# Altium footprint library SIM5320 pcb.PcbLib: 1 footprints
Each footprint in its own frame and in the unit in brackets; x right, y up, seen from the top. Pads: shape width x height; smd on the part's side, far side on the other; paste and mask are expansions set on the pad; w line width, h text height; cw(c..) or ccw(c..) is an arc to the next point about the centre after c.
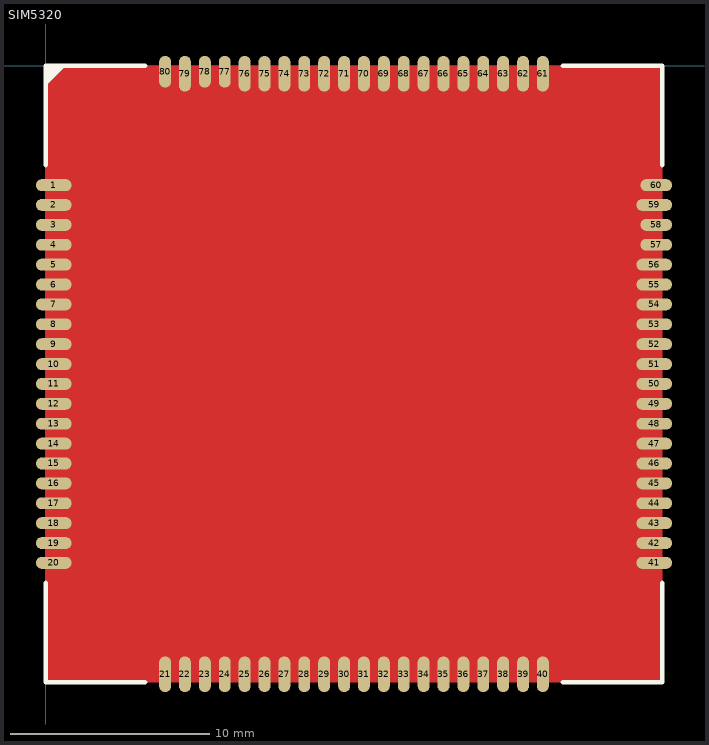
[diagram p0: the footprint, top view; thin cyan lines are the x and y axes]

## SIM5320 [mm]
height 2.9
pads (80):
  oval 1.8x0.6 smd: 1(0.4,-6) 2(0.4,-7) 3(0.4,-8) 4(0.4,-9) 5(0.4,-10) 6(0.4,-11) 7(0.4,-12) 8(0.4,-13) 9(0.4,-14) 10(0.4,-15) 11(0.4,-16) 12(0.4,-17) 13(0.4,-18) 14(0.4,-19) 15(0.4,-20) 16(0.4,-21) 17(0.4,-22) 18(0.4,-23) 19(0.4,-24) 20(0.4,-25) 41(30.6,-25) 42(30.6,-24) 43(30.6,-23) 44(30.6,-22) 45(30.6,-21) 46(30.6,-20) 47(30.6,-19) 48(30.6,-18) 49(30.6,-17) 50(30.6,-16) 51(30.6,-15) 52(30.6,-14) 53(30.6,-13) 54(30.6,-12) 55(30.6,-11) 56(30.6,-10) 59(30.6,-7)
  oval 0.6x1.8 smd: 21(6,-30.6) 22(7,-30.6) 23(8,-30.6) 24(9,-30.6) 25(10,-30.6) 26(11,-30.6) 27(12,-30.6) 28(13,-30.6) 29(14,-30.6) 30(15,-30.6) 31(16,-30.6) 32(17,-30.6) 33(18,-30.6) 34(19,-30.6) 35(20,-30.6) 36(21,-30.6) 37(22,-30.6) 38(23,-30.6) 39(24,-30.6) 40(25,-30.6) 61(25,-0.4) 62(24,-0.4) 63(23,-0.4) 64(22,-0.4) 65(21,-0.4) 66(20,-0.4) 67(19,-0.4) 68(18,-0.4) 69(17,-0.4) 70(16,-0.4) 71(15,-0.4) 72(14,-0.4) 73(13,-0.4) 74(12,-0.4) 75(11,-0.4) 76(10,-0.4) 79(7,-0.4)
  oval 1.6x0.6 smd: 57(30.7,-9) 58(30.7,-8) 60(30.7,-6)
  oval 0.6x1.6 smd: 77(9,-0.3) 78(8,-0.3) 80(6,-0.3)
Top Layer:
  pour cut-out: 0,0 31,0 31,-31 0,-31
Top Overlay:
  region: 0,0 0,-1 1,0
  lines w0.25: 0,-26 0,-31 5,-31 ; 0,-5 0,0 5,0 ; 26,-31 31,-31 31,-26 ; 26,0 31,0 31,-5
Mechanical 1:
  lines w0.254: 0.5,-30.5 30.5,-30.5 30.5,-0.5 0.5,-0.5 0.5,-30.5
Mechanical 5:
  lines w0.2: 0.508,-30.48 0.508,-0.508 30.48,-0.508 30.48,-30.48 0.508,-30.48
3D body: height 2.9, standoff -0.04, extent 0.5,-30.4 30.5,-0.4